# Altium schematic symbol library TPS22991BRAAR.SchLib: 1 symbol
Pins are listed as number, name and electrical type; pins without a type are passive.

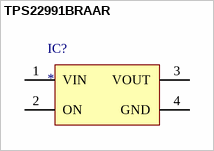
[diagram p0: symbol TPS22991BRAAR]

## TPS22991BRAAR
designator IC?
5V, 3A, 25mÎ© load switch with optional output discharge  4-UQFN-HR -55 to 125; Manufacturer_Name: Texas Instruments; Manufacturer_Part_Number: TPS22991BRAAR; TYPE: TYPE; RefDes: RefDes; Copyright: Copyright (C) 2026 Ultra Librarian. All rights reserved.; Datasheet: https://www.ti.com/lit/gpn/tps22991
footprint RAA0004A-MFG
pins: 1 VIN (power), 2 ON, 3 VOUT (power), 4 GND (power)